# EAGLE library part TPS53353_DQP_22 (library sw-regulator-tps53353)
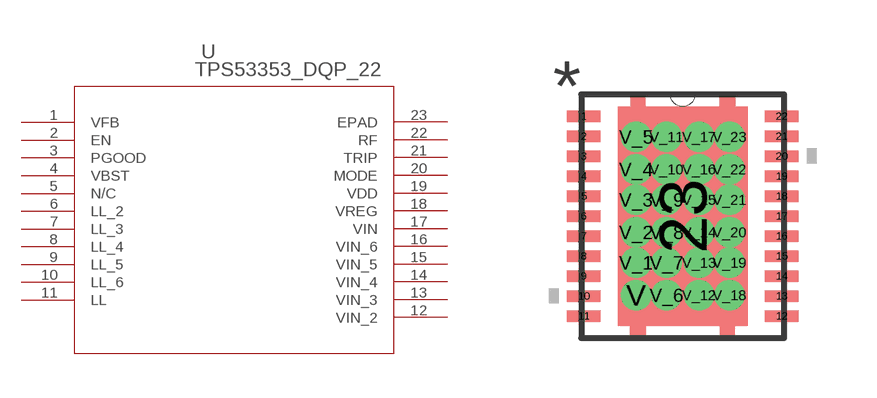
[diagram p0: symbol with the pads of DQP22_5P479X3P24; footprint DQP22_5P479X3P24]

Designator prefix U

## TPS53353_DQP_22 (DATASHEETURL: http://www.ti.com/lit/gpn/TPS53353; DESCRIPTION: High-Efficiency 20-A Synchronous Buck Converter in PowerStack Package; FAMILY_NAME: STEP-DOWN REGULATOR; GENERIC_PART_NUMBER: TPS53353; INDUSTRY_STD_PKG_TYPE: SON; MANUFACTURER: Texas Instruments; MANUFACTURER_PART_NUMBER: tps53353_dqp_22; PACKAGE_DESIGNATOR: DQP; PIN_COUNT: 22; VENDOR: Texas Instruments)  [DQP22_5P479X3P24]
1  VFB  out
2  EN  in
3  PGOOD  out
4  VBST  in
5  N/C  pas
6  LL_2  out
7  LL_3  out
8  LL_4  out
9  LL_5  out
10  LL_6  out
11  LL  out
12  VIN_2  in
13  VIN_3  in
14  VIN_4  in
15  VIN_5  in
16  VIN_6  in
17  VIN  in
18  VREG  pwr
19  VDD  pwr
20  MODE  in
21  TRIP  in
22  RF  in
23  EPAD  pas

## Footprint DQP22_5P479X3P24 (pad centres in mm)
smd 0.838 x 0.279: 1 -2.475,2.5; 2 -2.475,2; 3 -2.475,1.5; 4 -2.475,1; 5 -2.475,0.5; 6 -2.475,0; 7 -2.475,-0.5; 8 -2.475,-1; 9 -2.475,-1.5; 10 -2.475,-2; 11 -2.475,-2.5; 12 2.475,-2.5; 13 2.475,-2; 14 2.475,-1.5; 15 2.475,-1; 16 2.475,-0.5; 17 2.475,0; 18 2.475,0.5; 19 2.475,1; 20 2.475,1.5; 21 2.475,2; 22 2.475,2.5
smd 3.251 x 5.486: 23 0,0
drill 0.254: V -1.168,-1.981; V_1 -1.168,-1.168; V_2 -1.168,-0.406; V_3 -1.168,0.406; V_4 -1.168,1.168; V_5 -1.168,1.981; V_6 -0.406,-1.981; V_7 -0.406,-1.168; V_8 -0.406,-0.406; V_9 -0.406,0.406; V_10 -0.406,1.168; V_11 -0.406,1.981; V_12 0.406,-1.981; V_13 0.406,-1.168; V_14 0.406,-0.406; V_15 0.406,0.406; V_16 0.406,1.168; V_17 0.406,1.981; V_18 1.168,-1.981; V_19 1.168,-1.168; V_20 1.168,-0.406; V_21 1.168,0.406; V_22 1.168,1.168; V_23 1.168,1.981